# Altium integrated library Celestial Library.IntLib: 629 symbols (part 16 of 28)

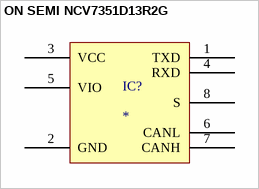
[diagram p345: symbol ON SEMI NCV7351D13R2G]

## ON SEMI NCV7351D13R2G
designator IC?
pins: 1 TXD, 2 GND, 3 VCC, 4 RXD, 5 VIO, 6 CANL, 7 CANH, 8 S


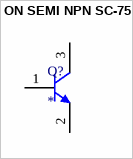
[diagram p346: symbol ON SEMI NPN SC-75]

## ON SEMI NPN SC-75
designator Q?
pins: 1 B, 2 E, 3 C


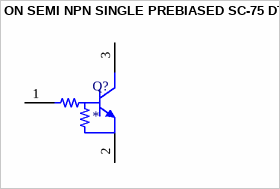
[diagram p347: symbol ON SEMI NPN SINGLE PREBIASED SC-75 DTC]

## ON SEMI NPN SINGLE PREBIASED SC-75 DTC
designator Q?
pins: 1 B, 2 E, 3 C


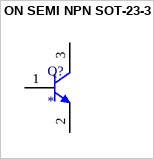
[diagram p348: symbol ON SEMI NPN SOT-23-3]

## ON SEMI NPN SOT-23-3
designator Q?
pins: 1 B, 2 E, 3 C


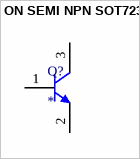
[diagram p349: symbol ON SEMI NPN SOT723]

## ON SEMI NPN SOT723
designator Q?
pins: 1 B, 2 E, 3 C


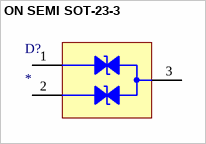
[diagram p350: symbol ON SEMI SOT-23-3]

## ON SEMI SOT-23-3
designator D?
TVS DIODE
pins: 1 I/O 1, 2 GND, 3 I/O 2


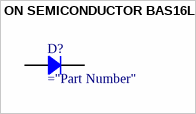
[diagram p351: symbol ON SEMICONDUCTOR BAS16LT1G]

## ON SEMICONDUCTOR BAS16LT1G
designator D?
Rectifier Diode
pins: 1, 3


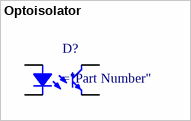
[diagram p352: symbol Optoisolator]

## Optoisolator
designator D?
pins: 1, 2, 3, 4


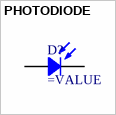
[diagram p353: symbol PHOTODIODE]

## PHOTODIODE
designator D?
Photodiode
pins: 1, 2


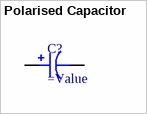
[diagram p354: symbol Polarised Capacitor]

## Polarised Capacitor
designator C?
SMT Polarised Capacitor
pins: 1, 2


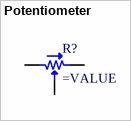
[diagram p355: symbol Potentiometer]

## Potentiometer
designator R?
Potentiometer
pins: 1, 2, 3


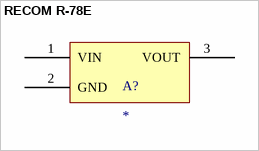
[diagram p356: symbol RECOM R-78E]

## RECOM R-78E
designator A?
pins: 1 VIN, 2 GND, 3 VOUT


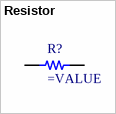
[diagram p357: symbol Resistor]

## Resistor
designator R?
SMT Resistor
pins: 1, 2


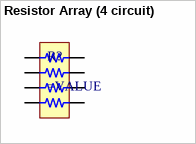
[diagram p358: symbol Resistor Array (4 circuit)]

## Resistor Array (4 circuit)
designator R?
SMT Resistor Array
pins: 1, 2, 3, 4, 5, 6, 7, 8


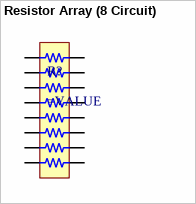
[diagram p359: symbol Resistor Array (8 Circuit)]

## Resistor Array (8 Circuit)
designator R?
SMT Resistor Array
pins: 1, 2, 3, 4, 5 6, 6, 7, 8, 9, 10, 11, 12, 13, 14, 15, 16


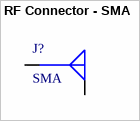
[diagram p360: symbol RF Connector - SMA]

## RF Connector - SMA
designator J?, comment SMA
pins: G, S


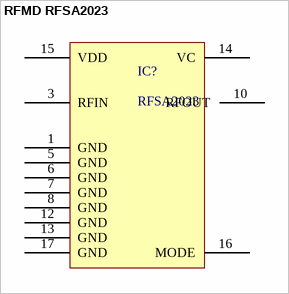
[diagram p361: symbol RFMD RFSA2023]

## RFMD RFSA2023
designator IC?, comment RFSA2023
VOLTAGE CONTROLLED ATTENUATOR
pins: 1 GND, 3 RFIN, 5 GND, 6 GND, 7 GND, 8 GND, 10 RFOUT, 12 GND, 13 GND, 14 VC, 15 VDD, 16 MODE, 17 GND


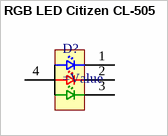
[diagram p362: symbol RGB LED Citizen CL-505]

## RGB LED Citizen CL-505
designator D?
*
pins: 1 C1, 2 C2, 3 C3, 4 A3


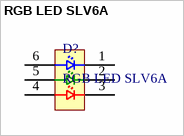
[diagram p363: symbol RGB LED SLV6A]

## RGB LED SLV6A
designator D?
Cree SLV6A
pins: 1 C1, 2 C2, 3 C3, 4 A3, 5 A2, 6 A1


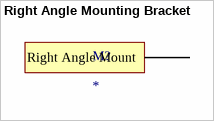
[diagram p364: symbol Right Angle Mounting Bracket]

## Right Angle Mounting Bracket
designator M?
pins: 1 Right Angle Mount


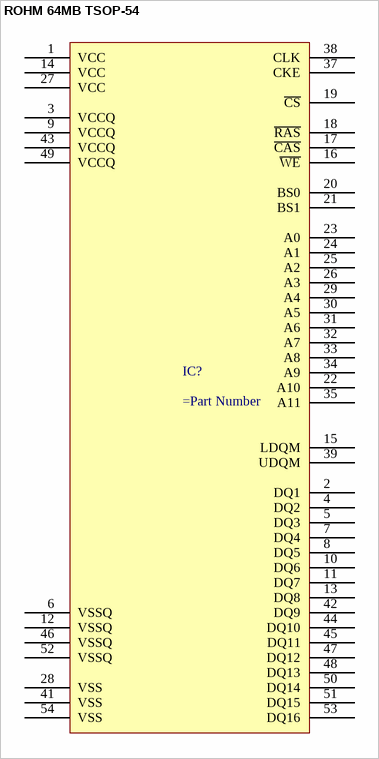
[diagram p365: symbol ROHM 64MB TSOP-54]

## ROHM 64MB TSOP-54
designator IC?
pins: 1 VCC, 2 DQ1, 3 VCCQ, 4 DQ2, 5 DQ3, 6 VSSQ, 7 DQ4, 8 DQ5, 9 VCCQ, 10 DQ6, 11 DQ7, 12 VSSQ, 13 DQ8, 14 VCC, 15 LDQM, 16 ~{WE}, 17 ~{CAS}, 18 ~{RAS}, 19 ~{CS}, 20 BS0, 21 BS1, 22 A10, 23 A0, 24 A1, 25 A2, 26 A3, 27 VCC, 28 VSS, 29 A4, 30 A5, 31 A6, 32 A7, 33 A8, 34 A9, 35 A11, 37 CKE, 38 CLK, 39 UDQM, 41 VSS, 42 DQ9, 43 VCCQ, 44 DQ10, 45 DQ11, 46 VSSQ, 47 DQ12, 48 DQ13, 49 VCCQ, 50 DQ14, 51 DQ15, 52 VSSQ, 53 DQ16, 54 VSS


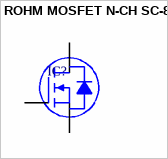
[diagram p366: symbol ROHM MOSFET N-CH SC-89]

## ROHM MOSFET N-CH SC-89
designator IC?
pins: 1 G, 3 S, 3 D


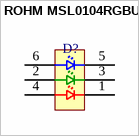
[diagram p367: symbol ROHM MSL0104RGBU1]

## ROHM MSL0104RGBU1
designator D?
pins: 1 CR, 2 AG, 3 CG, 4 AR, 5 CB, 6 AB, 7 CR
